# Altium footprint library SSOP20.PcbLib: 1 footprints
Each footprint in its own frame and in the unit in brackets; x right, y up, seen from the top. Pads: shape width x height; smd on the part's side, far side on the other; paste and mask are expansions set on the pad; w line width, h text height; cw(c..) or ccw(c..) is an arc to the next point about the centre after c.
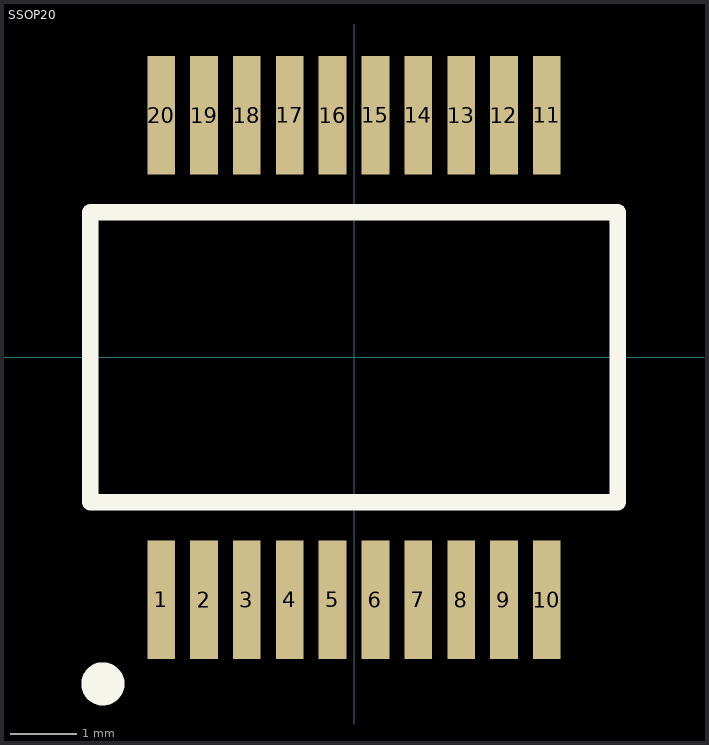
[diagram p0: the footprint, top view; thin cyan lines are the x and y axes]

## SSOP20 [mm]
pads (20):
  rect 0.42x1.8 smd: 1(-2.925,-3.675) 2(-2.275,-3.675) 3(-1.625,-3.675) 4(-0.975,-3.675) 5(-0.325,-3.675) 6(0.325,-3.675) 7(0.975,-3.675) 8(1.625,-3.675) 9(2.275,-3.675) 10(2.925,-3.675) 11(2.925,3.675) 12(2.275,3.675) 13(1.625,3.675) 14(0.975,3.675) 15(0.325,3.675) 16(-0.325,3.675) 17(-0.975,3.675) 18(-1.625,3.675) 19(-2.275,3.675) 20(-2.925,3.675)
Top Overlay:
  circle w0.4: c-3.81,-4.953 r0.127
  lines w0.254: -4,-2.2 4,-2.2 4,2.2 -4,2.2 -4,-2.2
3D body "SSOP-20_STM.step": height 2.01, standoff 0, extent -3.746,-4.102 3.746,4.102